# EAGLE library part PSD813F1 (library _st_PSD813)
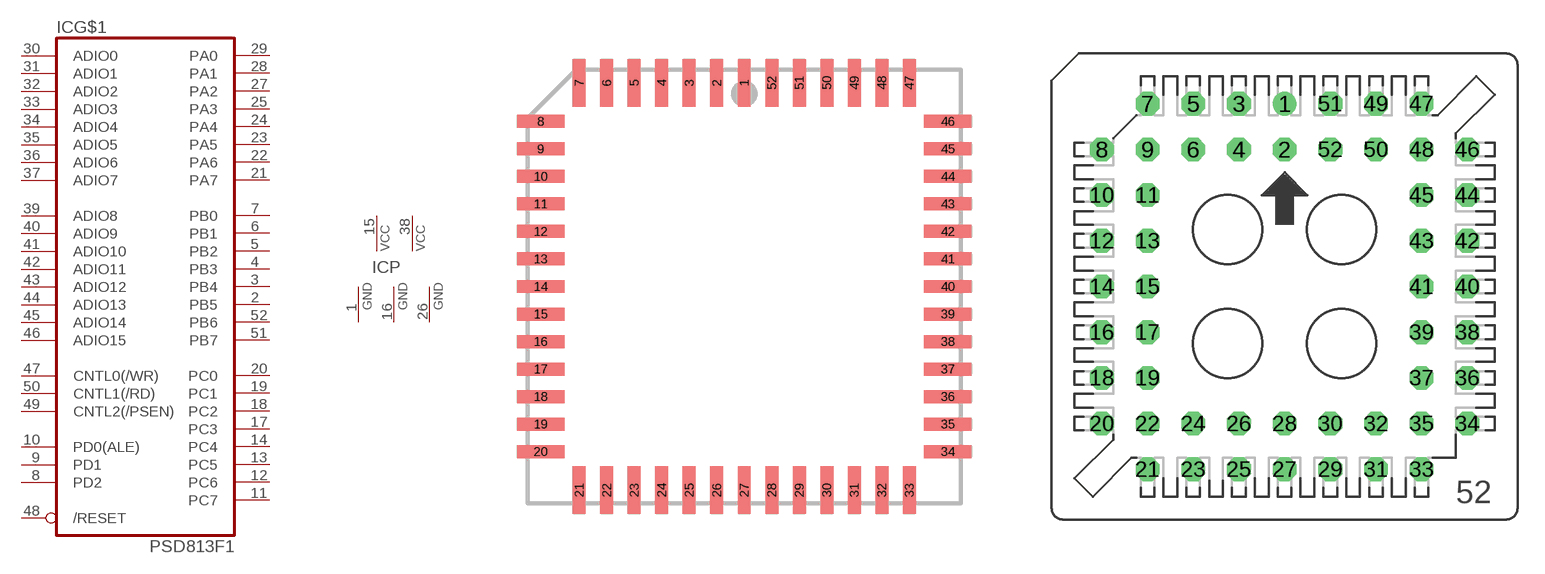
[diagram p0: symbol with the pads of PLCC52; footprints PLCC52, S52]

Designator prefix IC; gates G$1=PSD813 P=PWR

## PSD813F1J  [PLCC52]
1  P:GND1  pwr
2  G$1:PB5
3  G$1:PB4
4  G$1:PB3
5  G$1:PB2
6  G$1:PB1
7  G$1:PB0
8  G$1:PD2
9  G$1:PD1
10  G$1:PD0(ALE)
11  G$1:PC7
12  G$1:PC6
13  G$1:PC5
14  G$1:PC4
15  P:VCC1  pwr
16  P:GND2  pwr
17  G$1:PC3
18  G$1:PC2
19  G$1:PC1
20  G$1:PC0
21  G$1:PA7
22  G$1:PA6
23  G$1:PA5
24  G$1:PA4
25  G$1:PA3
26  P:GND3  pwr
27  G$1:PA2
28  G$1:PA1
29  G$1:PA0
30  G$1:ADIO0
31  G$1:ADIO1
32  G$1:ADIO2
33  G$1:ADIO3
34  G$1:ADIO4
35  G$1:ADIO5
36  G$1:ADIO6
37  G$1:ADIO7
38  P:VCC2  pwr
39  G$1:ADIO8
40  G$1:ADIO9
41  G$1:ADIO10
42  G$1:ADIO11
43  G$1:ADIO12
44  G$1:ADIO13
45  G$1:ADIO14
46  G$1:ADIO15
47  G$1:CNTL0(/WR)
48  G$1:/RESET
49  G$1:CNTL2(/PSEN)
50  G$1:CNTL1(/RD)
51  G$1:PB7
52  G$1:PB6

## PSD813F1  [S52]
Pads as for PLCC52

## PSD813F1M  [PGFP52]
1  G$1:PD2
2  G$1:PD1
3  G$1:PD0(ALE)
4  G$1:PC7
5  G$1:PC6
6  G$1:PC5
7  G$1:PC4
8  P:VCC1  pwr
9  P:GND1  pwr
10  G$1:PC3
11  G$1:PC2
12  G$1:PC1
13  G$1:PC0
14  G$1:PA7
15  G$1:PA6
16  G$1:PA5
17  G$1:PA4
18  G$1:PA3
19  P:GND2  pwr
20  G$1:PA2
21  G$1:PA1
22  G$1:PA0
23  G$1:ADIO0
24  G$1:ADIO1
25  G$1:ADIO2
26  G$1:ADIO3
27  G$1:ADIO4
28  G$1:ADIO5
29  G$1:ADIO6
30  G$1:ADIO7
31  P:VCC2  pwr
32  G$1:ADIO8
33  G$1:ADIO9
34  G$1:ADIO10
35  G$1:ADIO11
36  G$1:ADIO12
37  G$1:ADIO13
38  G$1:ADIO14
39  G$1:ADIO15
40  G$1:CNTL0(/WR)
41  G$1:/RESET
42  G$1:CNTL2(/PSEN)
43  G$1:CNTL1(/RD)
44  G$1:PB7
45  G$1:PB6
46  P:GND3  pwr
47  G$1:PB5
48  G$1:PB4
49  G$1:PB3
50  G$1:PB2
51  G$1:PB1
52  G$1:PB0

## Footprint PLCC52 (pad centres in mm)
smd 0.6 x 2.2: 1 0,9.4; 2 -1.27,9.4; 3 -2.54,9.4; 4 -3.81,9.4; 5 -5.08,9.4; 6 -6.35,9.4; 7 -7.62,9.4; 21 -7.62,-9.4; 22 -6.35,-9.4; 23 -5.08,-9.4; 24 -3.81,-9.4; 25 -2.54,-9.4; 26 -1.27,-9.4; 27 0,-9.4; 28 1.27,-9.4; 29 2.54,-9.4; 30 3.81,-9.4; 31 5.08,-9.4; 32 6.35,-9.4; 33 7.62,-9.4; 47 7.62,9.4; 48 6.35,9.4; 49 5.08,9.4; 50 3.81,9.4; 51 2.54,9.4; 52 1.27,9.4
smd 2.2 x 0.6: 8 -9.4,7.62; 9 -9.4,6.35; 10 -9.4,5.08; 11 -9.4,3.81; 12 -9.4,2.54; 13 -9.4,1.27; 14 -9.4,0; 15 -9.4,-1.27; 16 -9.4,-2.54; 17 -9.4,-3.81; 18 -9.4,-5.08; 19 -9.4,-6.35; 20 -9.4,-7.62; 34 9.4,-7.62; 35 9.4,-6.35; 36 9.4,-5.08; 37 9.4,-3.81; 38 9.4,-2.54; 39 9.4,-1.27; 40 9.4,0; 41 9.4,1.27; 42 9.4,2.54; 43 9.4,3.81; 44 9.4,5.08; 45 9.4,6.35; 46 9.4,7.62

## Footprint S52 (pad centres in mm)
PLCC SOCKET
drill 0.813 round: 1 0,10.16
drill 0.813 octagon: 2 0,7.62; 3 -2.54,10.16; 4 -2.54,7.62; 5 -5.08,10.16; 6 -5.08,7.62; 7 -7.62,10.16; 8 -10.16,7.62; 9 -7.62,7.62; 10 -10.16,5.08; 11 -7.62,5.08; 12 -10.16,2.54; 13 -7.62,2.54; 14 -10.16,0; 15 -7.62,0; 16 -10.16,-2.54; 17 -7.62,-2.54; 18 -10.16,-5.08; 19 -7.62,-5.08; 20 -10.16,-7.62; 21 -7.62,-10.16; 22 -7.62,-7.62; 23 -5.08,-10.16; 24 -5.08,-7.62; 25 -2.54,-10.16; 26 -2.54,-7.62; 27 0,-10.16; 28 0,-7.62; 29 2.54,-10.16; 30 2.54,-7.62; 31 5.08,-10.16; 32 5.08,-7.62; 33 7.62,-10.16; 34 10.16,-7.62; 35 7.62,-7.62; 36 10.16,-5.08; 37 7.62,-5.08; 38 10.16,-2.54; 39 7.62,-2.54; 40 10.16,0; 41 7.62,0; 42 10.16,2.54; 43 7.62,2.54; 44 10.16,5.08; 45 7.62,5.08; 46 10.16,7.62; 47 7.62,10.16; 48 7.62,7.62; 49 5.08,10.16; 50 5.08,7.62; 51 2.54,10.16; 52 2.54,7.62

## Footprint PGFP52 (pad centres in mm)
smd 0.8 x 3.4: 1 0,8.9
smd 0.8 x 2.2: 2 -1.27,9.5; 3 -2.54,9.5; 4 -3.81,9.5; 5 -5.08,9.5; 6 -6.35,9.5; 7 -7.62,9.5; 21 -7.62,-9.5; 22 -6.35,-9.5; 23 -5.08,-9.5; 24 -3.81,-9.5; 25 -2.54,-9.5; 26 -1.27,-9.5; 27 0,-9.5; 28 1.27,-9.5; 29 2.54,-9.5; 30 3.81,-9.5; 31 5.08,-9.5; 32 6.35,-9.5; 33 7.62,-9.5; 47 7.62,9.5; 48 6.35,9.5; 49 5.08,9.5; 50 3.81,9.5; 51 2.54,9.5; 52 1.27,9.5
smd 2.2 x 0.8: 8 -9.5,7.62; 9 -9.5,6.35; 10 -9.5,5.08; 11 -9.5,3.81; 12 -9.5,2.54; 13 -9.5,1.27; 14 -9.5,0; 15 -9.5,-1.27; 16 -9.5,-2.54; 17 -9.5,-3.81; 18 -9.5,-5.08; 19 -9.5,-6.35; 20 -9.5,-7.62; 34 9.5,-7.62; 35 9.5,-6.35; 36 9.5,-5.08; 37 9.5,-3.81; 38 9.5,-2.54; 39 9.5,-1.27; 40 9.5,0; 41 9.5,1.27; 42 9.5,2.54; 43 9.5,3.81; 44 9.5,5.08; 45 9.5,6.35; 46 9.5,7.62